# Altium schematic symbol library CFAG12864S.SchLib: 1 symbol
Pins are listed as number, name and electrical type; pins without a type are passive.

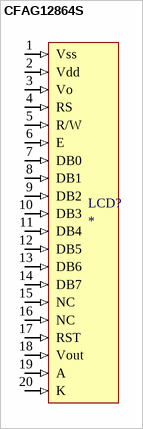
[diagram p0: symbol CFAG12864S]

## CFAG12864S
designator LCD?
MfrPartNo: *
pins: 1 Vss (in), 2 Vdd (in), 3 Vo (in), 4 RS (in), 5 R/W (in), 6 E (in), 7 DB0 (in), 8 DB1 (in), 9 DB2 (in), 10 DB3 (in), 11 DB4 (in), 12 DB5 (in), 13 DB6 (in), 14 DB7 (in), 15 NC (in), 16 NC (in), 17 RST (in), 18 Vout (in), 19 A (in), 20 K (in)